# Altium footprint library Custom.PcbLib: 446 footprints (part 14 of 28)
Each footprint in its own frame and in the unit in brackets; x right, y up, seen from the top. Pads: shape width x height; smd on the part's side, far side on the other; paste and mask are expansions set on the pad; w line width, h text height; cw(c..) or ccw(c..) is an arc to the next point about the centre after c.
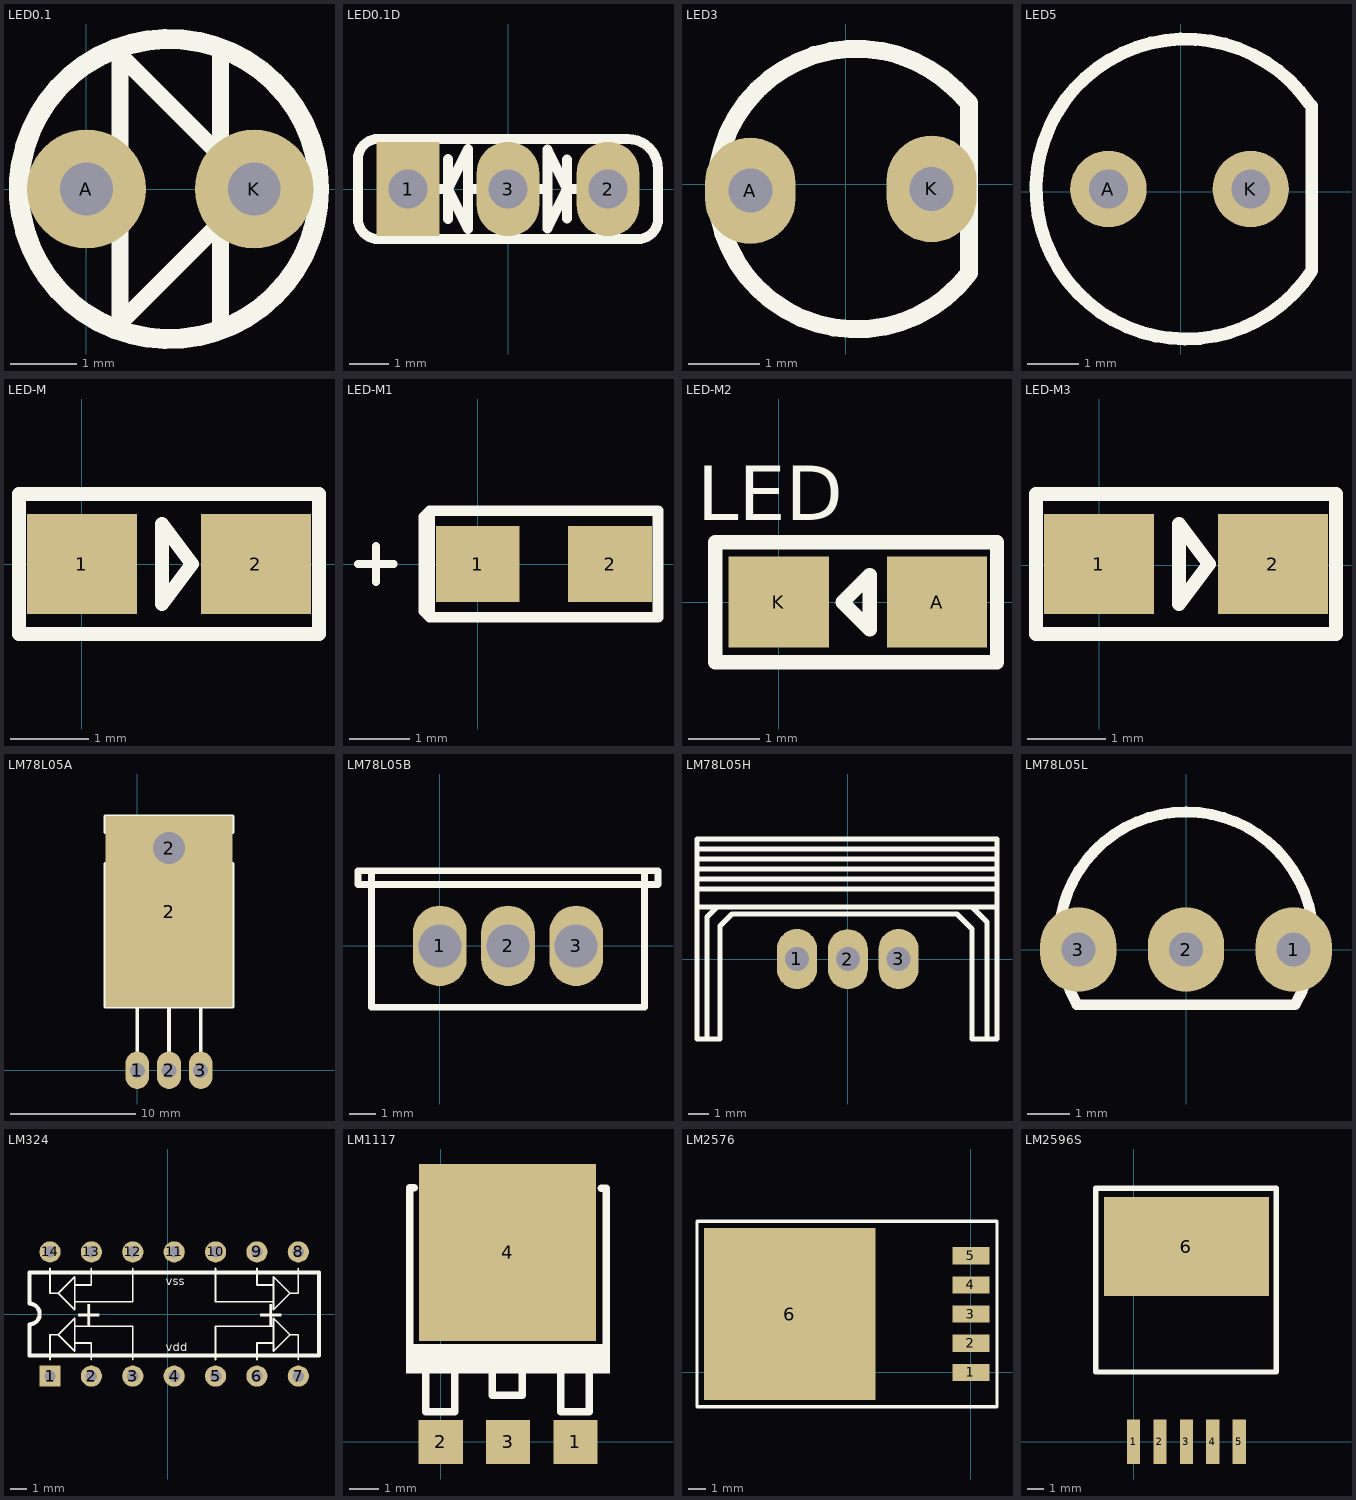
[diagram p13: the footprints below, top view; thin cyan lines are the x and y axes]

## LED0.1 [mm]
pads (2):
  round 1.8 hole 0.8: A(0,0) K(2.54,0)
Top Overlay:
  circle w0.305: c1.25,0 r2.272
  lines w0.254: 2.032,-2.032 2.032,2.032 ; 2.032,-0.508 0.508,-2.032 0.508,2.032 2.032,0.508

## LED0.1D [mm]
pads (3):
  rect 1.6x2.4 hole 1: 1(-2.54,0)
  oval 1.6x2.4 hole 1: 2(2.54,0) 3(0,0)
Top Overlay:
  lines w0.254: -2.032,0 -1.524,0 ; -1.524,-0.762 -1.524,0.762 ; -1.016,0 -0.508,0 ; 0.762,0 1,0 ; 1.496,-0.754 1.496,0.746 ; 2.032,0 1.5,0 ; -1.524,0 -1.016,1.016 -1.016,-1.016 -1.524,0 ; 1,1 1.5,0 ; 1,1 1.5,0 ; 1,1 1,-1 1.5,0 ; -3.81,-0.762 ccw(c-3.302,-0.762) -3.302,-1.27 3.302,-1.27 ccw(c3.302,-0.762) 3.81,-0.762 3.81,0.508 ccw(c3.048,0.508) 3.048,1.27 -3.302,1.27 ccw(c-3.302,0.762) -3.81,0.762 -3.81,-0.762

## LED3 [mm]
pads (2):
  oval 1.27x1.5 hole 0.62: A(-1.346,-0.089) K(1.206,-0.064)
Top Overlay:
  lines w0.254: 1.548,1.332 ccw(c0.151,-0.065) 1.732,-1.25 1.732,1.149 1.548,1.332

## LED5 [mm]
pads (2):
  round 1.5 hole 0.762: A(-1.416,0.054) K(1.378,0.054)
Top Overlay:
  lines w0.254: 2.525,1.738 ccw(c0.108,0.054) 2.578,-1.551 2.578,1.685

## LED-M [mm]
pads (2):
  rect 1.4x1.27 smd: 1(0,0) 2(2.21,0)
Top Overlay:
  lines w0.178: 3.011,0.889 3.01,0.889 ; 3.01,0.889 -0.8,0.889 -0.8,0 -0.8,-0.889 3.01,-0.889 3.01,0.889 ; 1.016,-0.508 1.397,0 1.016,0.508 1.016,-0.508

## LED-M1 [mm]
pads (2):
  rect 1.4x1.27 smd: 1(0,0) 2(2.21,0)
Top Overlay:
  lines w0.127: -2,0 -1.5,0 -1.4,0 ; -1.7,-0.3 -1.7,0.3
  lines w0.178: -0.901,-0.788 -0.8,-0.889 ; -0.901,-0.788 -0.8,-0.889 ; -0.901,-0.788 -0.901,0.788 -0.8,0.889 ; -0.8,-0.889 -0.8,0 -0.8,0.889 ; -0.8,-0.889 3.01,-0.889 3.01,0.889 -0.8,0.889

## LED-M2 [mm]
pads (2):
  rect 1.4x1.27 smd: A(2.21,0) K(0,0)
Top Overlay:
  lines w0.2: -0.889,-0.838 3.048,-0.838 3.048,0.838 2.064,0.838 0.095,0.838 -0.889,0.838 -0.889,-0.838 ; 0.889,0 1.27,-0.381 1.27,0.381 0.889,0
  text "LED" at -1.143,1.143 h0.76

## LED-M3 [mm]
pads (2):
  rect 1.4x1.27 smd: 1(-0.003,0.013) 2(2.207,0.013)
Top Overlay:
  lines w0.178: 3.008,0.902 3.007,0.902 ; 3.007,0.902 3.007,-0.876 -0.803,-0.876 -0.803,0.013 -0.803,0.902 3.007,0.902 ; 1.013,-0.495 1.013,0.521 1.394,0.013 1.013,-0.495

## LM78L05A [mm]
pads (5):
  oval 1.9x3 hole 1.2: 1(0,0) 2(2.54,0) 3(5.08,0)
  rect 10.2x15.3 smd: 2(2.54,12.7)
  round 3 hole 2.54: 2(2.54,17.78)
Top Overlay:
  lines w0.305: 0,1.524 0,5.08 ; 2.54,1.524 2.54,5.08 ; 5.08,1.524 5.08,5.08 ; -2.54,5.08 -2.54,16.51 -1.27,16.51 -1.27,19.05 -2.54,19.05 -2.54,20.32 7.62,20.32 7.62,19.05 6.35,19.05 6.35,16.51 7.62,16.51 7.62,5.08 -2.54,5.08

## LM78L05B [mm]
pads (3):
  oval 2x3 hole 1.6: 1(0,0) 2(2.54,0) 3(5.08,0)
Top Overlay:
  lines w0.254: -2.54,2.794 7.62,2.794 ; -2.54,2.794 -2.54,-2.286 7.62,-2.286 7.62,2.794 ; -2.54,2.794 -3.048,2.794 -3.048,2.286 -2.54,2.286 7.62,2.286 8.128,2.286 8.128,2.794 7.62,2.794

## LM78L05H [mm]
pads (3):
  oval 2x3 hole 1.2: 1(-2.544,0.006) 2(0,0) 3(2.536,0.006)
Top Overlay:
  lines w0.254: -7.544,2.61 7.456,2.61 ; -7.544,3.506 7.456,3.506 ; -7.544,4.006 7.456,4.006 ; -7.544,4.506 7.456,4.506 ; -7.544,5.006 7.456,5.006 ; -7.544,5.506 7.456,5.506 ; -7.044,-3.994 -7.044,2.11 -6.544,2.61 ; 6.206,2.61 6.956,1.86 6.956,-3.994 ; -7.544,-3.994 -7.544,6.006 7.456,6.006 7.456,-3.994 6.206,-3.994 6.206,1.506 5.456,2.256 -5.794,2.256 -6.392,1.658 -6.392,-3.994 -7.544,-3.994

## LM78L05L [mm]
pads (3):
  oval 1.8x2 hole 0.8: 1(2.54,0) 2(0,0) 3(-2.54,0)
Top Overlay:
  lines w0.254: -2.594,-1.25 cw(c0.004,0.25) 2.602,-1.25 ; -2.576,-1.3 2.574,-1.3

## LM324 [mm]
pads (14):
  rect 1.3x1.3 hole 0.7: 1(-7.239,-3.81)
  round 1.3 hole 0.7: 2(-4.699,-3.81) 3(-2.159,-3.81) 4(0.381,-3.81) 5(2.921,-3.81) 6(5.461,-3.81) 7(8.001,-3.81) 8(8.001,3.81) 9(5.461,3.81) 10(2.921,3.81) 11(0.381,3.81) 12(-2.159,3.81) 13(-4.699,3.81) 14(-7.239,3.81)
Top Overlay:
  lines w0.102: -7.239,-2.794 -7.239,-1.27 -6.731,-1.27 ; -7.239,2.794 -7.239,1.27 -6.731,1.27 ; -5.715,-1.778 -4.699,-1.778 -4.699,-2.794 ; -5.715,-0.762 -2.159,-0.762 -2.159,-2.794 ; -5.715,0.762 -2.159,0.762 -2.159,2.794 ; -5.715,1.778 -4.699,1.778 -4.699,2.794 ; 2.921,-2.794 2.921,-0.762 6.477,-0.762 ; 2.921,2.794 2.921,0.762 6.477,0.762 ; 5.461,-2.794 5.461,-1.778 6.477,-1.778 ; 5.461,2.794 5.461,1.778 6.477,1.778 ; 8.001,-2.794 8.001,-1.27 7.493,-1.27 ; 8.001,2.794 8.001,1.27 7.493,1.27 ; -6.731,-1.27 -5.715,-0.254 -5.715,-2.286 -6.731,-1.27 ; -6.731,1.27 -5.715,0.254 -5.715,2.286 -6.731,1.27 ; 7.493,-1.27 6.477,-0.254 6.477,-2.286 7.493,-1.27 ; 7.493,1.27 6.477,2.286 6.477,0.254 7.493,1.27
  lines w0.254: -8.509,-2.54 -8.509,-0.635 ccw(c-8.509,0) -8.509,0.635 -8.509,2.54 9.271,2.54 9.271,-2.54 -8.509,-2.54
  text "vdd" at -0.127,-2.286 h0.51
  text "vss" at -0.127,1.778 h0.51
  text "+" at -5.715,-0.762 h1.52
  text "+" at 5.461,-0.762 h1.52

## LM1117 [mm]
height 12.93
pads (4):
  rect 1.5x1.5 smd: 1(4.572,0) 2(0,0) 3(2.286,0)
  rect 6x6 smd: 4(2.272,6.425)
Top Overlay:
  rectangle: -1.178,2.325 5.747,3.325
  lines w0.254: -1.053,3.15 -1.053,8.625 ; -1.028,8.625 -0.903,8.625 ; -0.503,2.275 -0.503,1.025 0.472,1.025 0.472,2.3 ; 1.747,2.275 1.747,1.575 2.772,1.575 2.772,2.375 ; 4.072,2.275 4.072,1.025 5.047,1.025 5.047,2.3 ; 5.447,8.6 5.597,8.6 ; 5.622,3.175 5.622,8.6

## LM2576 [mm]
pads (6):
  rect 2.16x1 smd: 1(0.003,-0.02) 2(0.003,1.68) 3(0.003,3.38) 4(0.003,5.08) 5(0.003,6.78)
  rect 10x10 smd: 6(-10.547,3.38)
Top Overlay:
  lines w0.2: -5.601,-2.016 -15.951,-2.016 -15.951,8.784 -5.541,8.784
  lines w0.203: -5.601,-2.016 1.524,-2.016 1.524,8.784 -5.541,8.784

## LM2596S [mm]
pads (6):
  rect 0.8x2.7 smd: 1(0,0) 2(1.6,0) 3(3.2,0) 4(4.8,0) 5(6.4,0)
  rect 10x6 smd: 6(3.2,11.8)
Top Overlay:
  lines w0.305: -2.286,4.208 8.636,4.208 8.636,15.333 -2.286,15.333 -2.286,4.208
Bottom Paste:
  lines w0.254: -1.8,4.25 -1.8,8.55 8.2,8.55 8.2,4.25 -1.8,4.25